# EAGLE library part ADC128D818 (library ADC128D818)
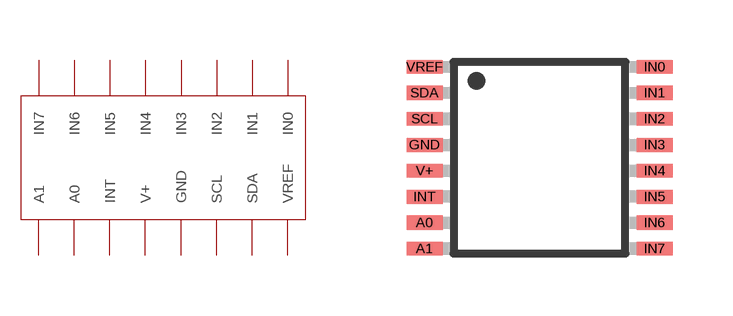
[diagram p0: symbol with the pads of TSSOP-16; footprint TSSOP-16]

Designator prefix -

## ADC128D818  [TSSOP-16]
A0  A0
A1  A1
GND  GND
IN0  IN0
IN1  IN1
IN2  IN2
IN3  IN3
IN4  IN4
IN5  IN5
IN6  IN6
IN7  IN7
INT  INT
SCL  SCL
SDA  SDA
V+  V+
VREF  VREF

## Footprint TSSOP-16 (pad centres in mm)
16-Lead Thin Shrink Small Outline Package [TSSOP] (RU-16) Source: 8x ADG1408_1409.pdf
smd 0.9 x 0.35: A0 -2.875,-1.625; A1 -2.875,-2.275; GND -2.875,0.325; IN0 2.875,2.275; IN1 2.875,1.625; IN2 2.875,0.975; IN3 2.875,0.325; IN4 2.875,-0.325; IN5 2.875,-0.975; IN6 2.875,-1.625; IN7 2.875,-2.275; INT -2.875,-0.975; SCL -2.875,0.975; SDA -2.875,1.625; V+ -2.875,-0.325; VREF -2.875,2.275